# EAGLE library part DG418LDY-E3 (library Vishay_By_element14_Batch_1)
Precision Monolithic Low-Voltage CMOS Analog Switches
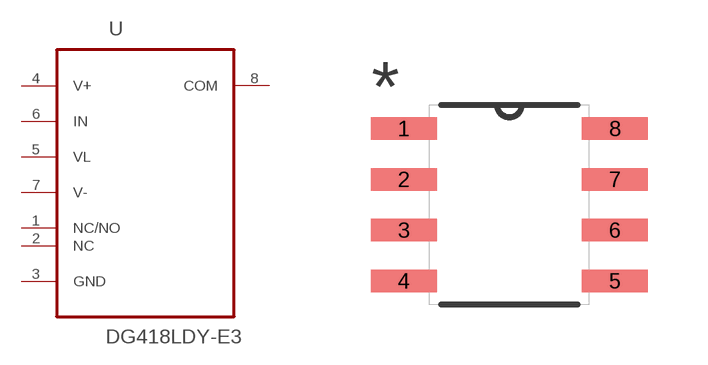
[diagram p50: symbol with the pads of SOIC127P600X175-8N; footprint SOIC127P600X175-8N]

Designator prefix U

## DG418LDY-E3 (MPN: DG418LDY-E3; OC_FARNELL: 1077105; OC_NEWARK: 91K6759; PACKAGE: SOIC-8; SUPPLIER: VISHAY SILICONIX)  [SOIC127P600X175-8N]
1  NC/NO  nc
2  NC  nc
3  GND  pas
4  V+  pwr
5  VL  in
6  IN  in
7  V-  pwr
8  COM  out

## Footprint SOIC127P600X175-8N (pad centres in mm)
smd 1.651 x 0.559: 1 -2.642,1.905; 2 -2.642,0.635; 3 -2.642,-0.635; 4 -2.642,-1.905; 5 2.642,-1.905; 6 2.642,-0.635; 7 2.642,0.635; 8 2.642,1.905